# Altium schematic symbol library button.SchLib: 1 symbol
Pins are listed as number, name and electrical type; pins without a type are passive.

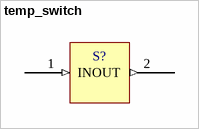
[diagram p0: symbol temp_switch]

## temp_switch
designator S?
footprint PCBComponent_1
pins: 1 IN (in), 2 OUT (out)